# EAGLE library part CAMERA-HIMAX (library SparkFun-Connectors_extra_pin)
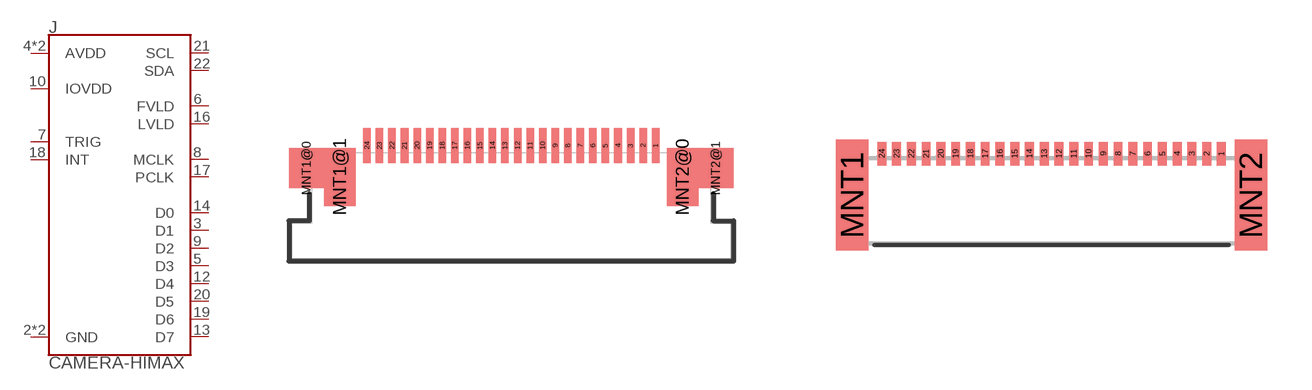
[diagram p65: symbol with the pads of FPC-24-AMPHENOL-SFV24R-1STE1HLF; footprints FPC-24-AMPHENOL-SFV24R-1STE1HLF, FPC05024-42201]

Designator prefix J

## CAMERA-HIMAXBOTTOM-CONTACT (DIGIKEY: 609-4320-2-ND; PROD_ID: CONN-14233)  [FPC-24-AMPHENOL-SFV24R-1STE1HLF]
2  GND
3  D1
4  AVDD
5  D3
6  FVLD
7  TRIG
8  MCLK
9  D2
10  IOVDD
11  AVDD
12  D4
13  D7
14  D0
15  GND
16  LVLD
17  PCLK
18  INT
19  D6
20  D5
21  SCL
22  SDA
MNT1@0  MNT1
MNT1@1  MNT1
MNT2@0  MNT2
MNT2@1  MNT2

## CAMERA-HIMAXFACEDOWN (PROD_ID: CONN-14195)  [FPC05024-42201]
2  GND
3  D1
4  AVDD
5  D3
6  FVLD
7  TRIG
8  MCLK
9  D2
10  IOVDD
11  AVDD
12  D4
13  D7
14  D0
15  GND
16  LVLD
17  PCLK
18  INT
19  D6
20  D5
21  SCL
22  SDA
MNT1  MNT1
MNT2  MNT2

## CAMERA-HIMAXFACEUP  [FPC05024-42201]
3  SDA
4  SCL
5  D5
6  D6
7  INT
8  PCLK
9  LVLD
10  GND
11  D0
12  D7
13  D4
14  AVDD
15  IOVDD
16  D2
17  MCLK
18  TRIG
19  FVLD
20  D3
21  AVDD
22  D1
23  GND
MNT1  MNT1
MNT2  MNT2

## Footprint FPC-24-AMPHENOL-SFV24R-1STE1HLF (pad centres in mm)
24-Pin FPC/FFC Connector - 0.5mm pitch Digikey: 609-4320-2-ND Datasheet <https://cdn.amphenol-icc.com/media/wysiwyg/files/drawing/10112793.pdf>
smd 0.3 x 1.4: 1 5.75,2.4; 2 5.25,2.4; 3 4.75,2.4; 4 4.25,2.4; 5 3.75,2.4; 6 3.25,2.4; 7 2.75,2.4; 8 2.25,2.4; 9 1.75,2.4; 10 1.25,2.4; 11 0.75,2.4; 12 0.25,2.4; 13 -0.25,2.4; 14 -0.75,2.4; 15 -1.25,2.4; 16 -1.75,2.4; 17 -2.25,2.4; 18 -2.75,2.4; 19 -3.25,2.4; 20 -3.75,2.4; 21 -4.25,2.4; 22 -4.75,2.4; 23 -5.25,2.4; 24 -5.75,2.4
smd 1.4 x 1.6: MNT1@0 -8.15,1.5; MNT2@1 8.15,1.5
smd 1.25 x 2.3: MNT1@1 -6.825,1.15; MNT2@0 6.825,1.15

## Footprint FPC05024-42201 (pad centres in mm)
24 Pin FPC 0.5mm with contacts both sides.
smd 0.3 x 0.8: 1 5.75,0.4; 2 5.25,0.4; 3 4.75,0.4; 4 4.25,0.4; 5 3.75,0.4; 6 3.25,0.4; 7 2.75,0.4; 8 2.25,0.4; 9 1.75,0.4; 10 1.25,0.4; 11 0.75,0.4; 12 0.25,0.4; 13 -0.25,0.4; 14 -0.75,0.4; 15 -1.25,0.4; 16 -1.75,0.4; 17 -2.25,0.4; 18 -2.75,0.4; 19 -3.25,0.4; 20 -3.75,0.4; 21 -4.25,0.4; 22 -4.75,0.4; 23 -5.25,0.4; 24 -5.75,0.4
smd 1.1 x 3.75: MNT1 -6.75,-1; MNT2 6.75,-1